# Altium schematic symbol library L_T.SchLib: 8 symbols
Pins are listed as number, name and electrical type; pins without a type are passive.

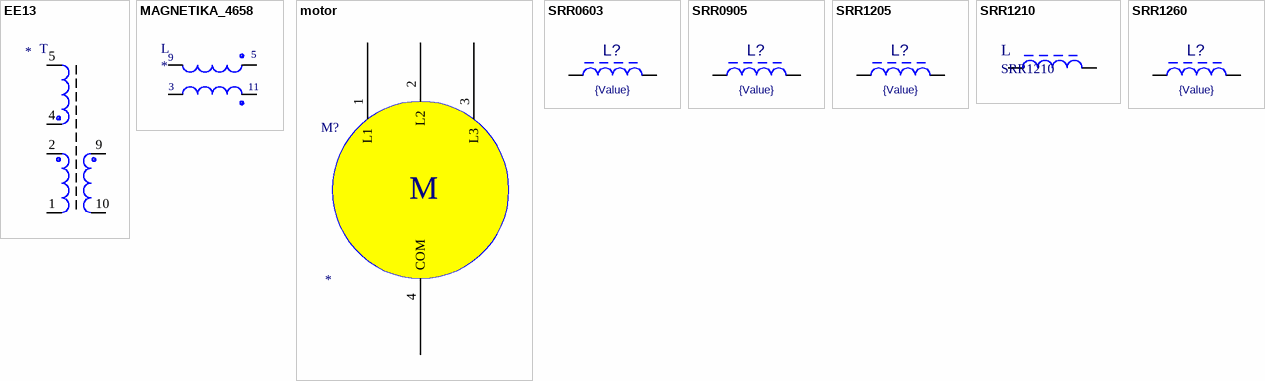
[diagram p0: symbols EE13 to SRR1260]

## EE13
designator T
footprint EE13
pins: 1, 2, 3 hidden, 4, 5, 6 hidden, 7 hidden, 8 hidden, 9, 10

## MAGNETIKA_4658
designator L
footprint MAGNETIKA_4658; pin to pad 1>3 2>5 3>9 4>11 5>8
pins: 1 3, 2 5, 3 9, 4 11, 5 8 hidden

## motor
designator M?
pins: 1 L1, 2 L2, 3 L3, 4 COM
text: M

## SRR0603
designator L?  value {Value}  (hidden comment: SRR0603)
footprint SRR0603
pins: 1, 2

## SRR0905
designator L?, comment {Value}
Value: {Value}
footprint SRR0905
pins: 1, 2

## SRR1205
designator L?, comment {Value}
Value: {Value}
footprint SRR1205
pins: 1, 2

## SRR1210
designator L
Value: *
footprint SRR1210
pins: 1, 2

## SRR1260
designator L?, comment {Value}
Value: {Value}
footprint SRR1260
pins: 1, 2